# Altium schematic symbol library J7MM.Schlib: 1 symbol
Pins are listed as number, name and electrical type; pins without a type are passive.

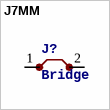
[diagram p0: symbol J7MM]

## J7MM
designator J?, comment Bridge
footprint 07
pins: 1, 2